# Altium schematic symbol library Inductor 33uH 2A SLO0630H330MTT.Schlib: 1 symbol
Pins are listed as number, name and electrical type; pins without a type are passive.

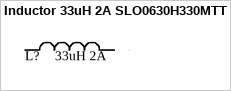
[diagram p0: symbol Inductor 33uH 2A SLO0630H330MTT]

## Inductor 33uH 2A SLO0630H330MTT
designator L?, comment 33uH 2A
33uH ±20% 2A 270mΩ SMD,7.1x6.6x3mm Power Inductors RoHS; ComponentLink1Description: LCSC - SLO0630H330MTT; ComponentLink1URL: https://lcsc.com/product-detail/Power-Inductors_Sunltech-Tech-SLO0630H330MTT_C207844.html; Value: 33uH 2A
footprint SLO0630H Inductor
pins: 1, 2